# Altium schematic symbol library 2450AT42A100E.SchLib: 1 symbol
Pins are listed as number, name and electrical type; pins without a type are passive.

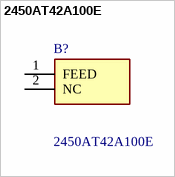
[diagram p0: symbol 2450AT42A100E]

## 2450AT42A100E
designator B?
JOHANSON TECHNOLOGY - 2450AT42A100E - ANTENNA, 2.4GHZ; Geometry.Height: 1.1mm; Mouser Part Number: 609-2450AT42A100E; Mouser Price/Stock: https://www.mouser.co.uk/ProductDetail/Johanson-Technology/2450AT42A100E?qs=yCnrNFeXz%252BhaJmvBFFPWJQ%3D%3D; Manufacturer_Name: JOHANSON TECHNOLOGY; Manufacturer_Part_Number: 2450AT42A100E; Datasheet Link: *
footprint ANTC5020X110N
pins: 1 FEED, 2 NC